# EAGLE library part BP3595 (library Module)
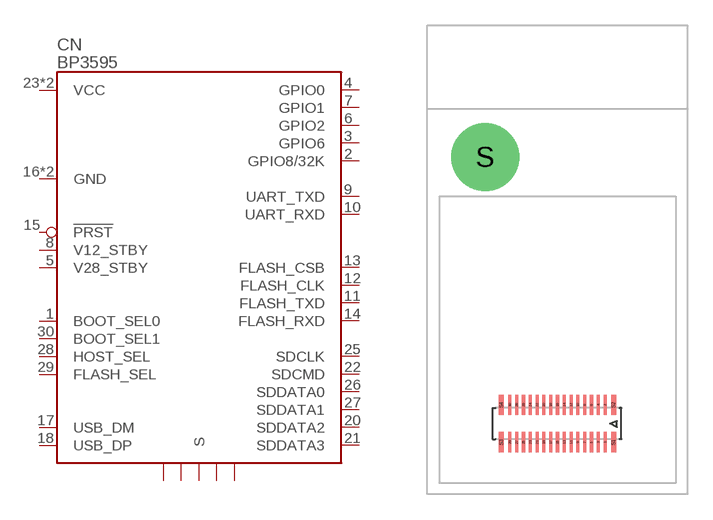
[diagram p1: symbol with the pads of BP3595; footprint BP3595]

Designator prefix CN

## BP3595  [BP3595]
1  BOOT_SEL0
2  GPIO8/32K
3  GPIO6
4  GPIO0
5  V28_STBY
6  GPIO2
7  GPIO1
8  V12_STBY
9  UART_TXD
10  UART_RXD
11  FLASH_TXD
12  FLASH_CLK
13  FLASH_CSB
14  FLASH_RXD
15  !PRST
16  GND
17  USB_DM
18  USB_DP
19  GND
20  SDDATA2
21  SDDATA3
22  SDCMD
23  VCC
24  VCC
25  SDCLK
26  SDDATA0
27  SDDATA1
28  HOST_SEL
29  FLASH_SEL
30  BOOT_SEL1
S  S  pas
S1  S1  pas
S2  S2  pas
S3  S3  pas
S4  S4  pas

## Footprint BP3595 (pad centres in mm)
smd 0.18 x 1.2: 1 2.8,-1.1; 2 2.8,1.1; 3 2.4,-1.1; 4 2.4,1.1; 5 2,-1.1; 6 2,1.1; 7 1.6,-1.1; 8 1.6,1.1; 9 1.2,-1.1; 10 1.2,1.1; 11 0.8,-1.1; 12 0.8,1.1; 13 0.4,-1.1; 14 0.4,1.1; 15 0,-1.1; 16 0,1.1; 17 -0.4,-1.1; 18 -0.4,1.1; 19 -0.8,-1.1; 20 -0.8,1.1; 21 -1.2,-1.1; 22 -1.2,1.1; 23 -1.6,-1.1; 24 -1.6,1.1; 25 -2,-1.1; 26 -2,1.1; 27 -2.4,-1.1; 28 -2.4,1.1; 29 -2.8,-1.1; 30 -2.8,1.1
drill 2.3 pad 4: S -4.25,15.7
smd 0.3 x 1.2: S1 3.3,-1.1; S2 3.3,1.1; S3 -3.3,-1.1; S4 -3.3,1.1